# Altium schematic symbol library Chips.SchLib: 8 symbols
Pins are listed as number, name and electrical type; pins without a type are passive.

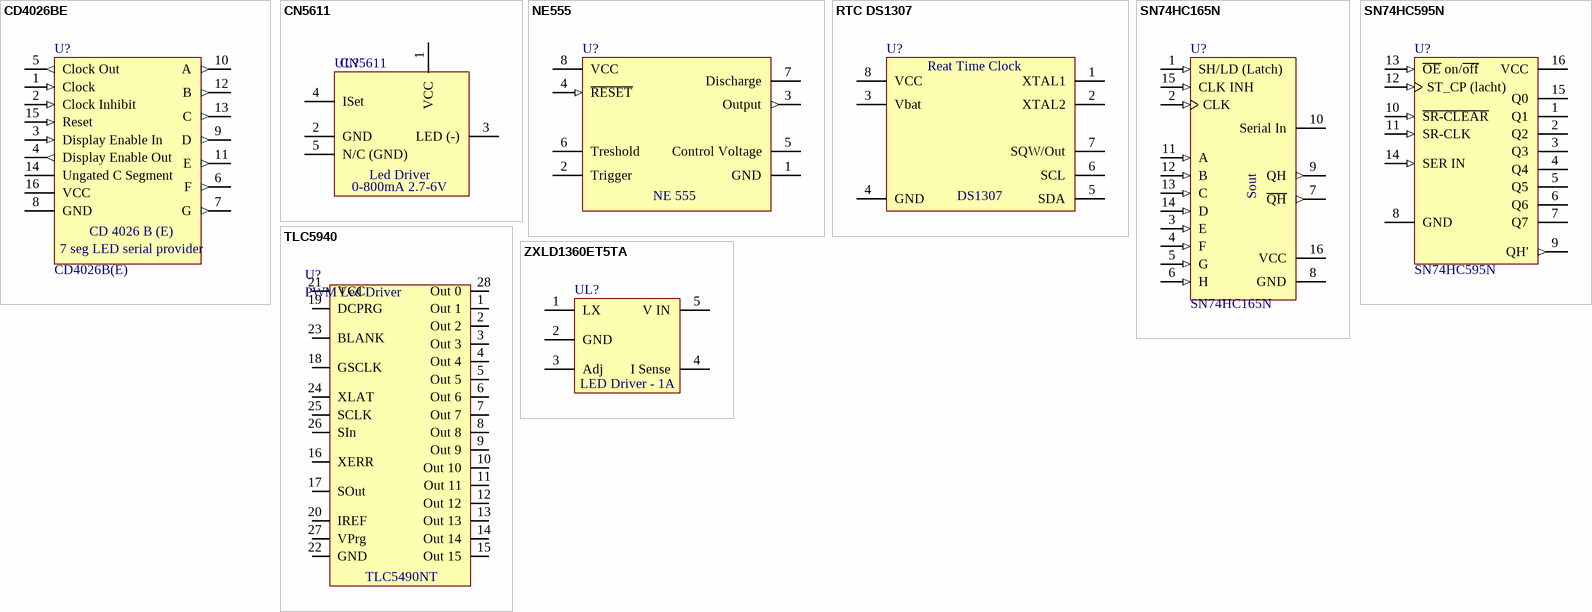
[diagram p0: symbols CD4026BE to ZXLD1360ET5TA]

## CD4026BE
designator U?, comment CD4026B(E)
jk Trigger; PackageDescription: DIP; 16 Leads; Row Spacing 7.62 mm; Pitch 2.54 mm; ComponentLink1URL: http://www.ti.com/; ComponentLink2Description: Datasheet; ComponentLink2URL: http://www.ti.com/lit/ds/symlink/cd4033b.pdf
footprint DIP-16 (DIP; 16 Leads; Row Spacing 7.62 mm; Pitch 2.54 mm)
footprint SO16
footprint SO16 - S
pins: 1 Clock (in), 2 Clock Inhibit (in), 3 Display Enable In (in), 4 Display Enable Out (out), 5 Clock Out (out), 6 F (out), 7 G (out), 8 GND (power), 9 D (out), 10 A (out), 11 E (out), 12 B (out), 13 C (out), 14 Ungated C Segment, 15 Reset (in), 16 VCC (power)
text: CD 4026 B (E); 7 seg LED serial provider

## CN5611
designator UL?, comment Name: CN5611  (hidden comment: Led Driver)
Led Driver 0-800mA 2.7-6V; PackageDescription: SOT-89; ComponentLink2Description: Datasheet
footprint SOT-89-5
pins: 1 VCC (power), 2 GND (power), 3 LED (-) (power), 4 ISet (power), 5 N/C (GND) (power)
text: 0-800mA 2.7-6V

## NE555
designator U?  (value not drawn)
8-Bit Shift Register with 3-State Output Registers; PackageDescription: DIP; 8 Leads; Row Spacing 7.62 mm; Pitch 2.54 mm / SO-8; Code_JEDEC: MS-001-BB; ComponentLink1Description: TI / STI; ComponentLink1URL: http://www.ti.com/; ComponentLink2Description: Datasheet; ComponentLink2URL: http://tec.org.ru/_bd/1/150_NE555-stm.pdf
footprint DIP-8 (DIP; 8 Leads; Row Spacing 7.62 mm; Pitch 2.54 mm)
footprint DIP-8 (Oval) (DIP; 8 Leads; Row Spacing 7.62 mm; Pitch 2.54 mm)
footprint SO8
pins: 1 GND (power), 2 Trigger (hiz), 3 Output (out), 4 ~{RESET} (in), 5 Control Voltage (hiz), 6 Treshold (hiz), 7 Discharge (hiz), 8 VCC (power)
text: NE 555

## RTC DS1307
designator U?, comment DS1307  (value not drawn)
(RTC) Real Time Clock; PackageDescription: DIP; 8 Leads; Row Spacing 7.62 mm; Pitch 2.54 mm / SO-8; Datasheet: http://cxem.net/arduino/files/arduino120_DS1307_datashit.pdf
footprint DIP-8 (DIP; 8 Leads; Row Spacing 7.62 mm; Pitch 2.54 mm)
footprint DIP-8 (Oval) (DIP; 8 Leads; Row Spacing 7.62 mm; Pitch 2.54 mm)
footprint SO8
pins: 1 XTAL1 (power), 2 XTAL2 (hiz), 3 Vbat, 4 GND, 5 SDA (hiz), 6 SCL (hiz), 7 SQW/Out (hiz), 8 VCC (power)
text: Reat Time Clock

## SN74HC165N
designator U?
8-Bit Parallel-Load Shift Register; Published: 8-Jun-2000; LatestRevisionDate: 04-Mar-2005; LatestRevisionNote: Stylized 3D Model Added.; DatasheetVersion: May-1997; PackageVersion: Oct-1995; PackageReference: N016; Publisher: Altium Limited; PackageDescription: DIP; 16 Leads; Row Spacing 7.62 mm; Pitch 2.54 mm; Code_JEDEC: MS-001-BB; ComponentLink1Description: Manufacturer Link; ComponentLink1URL: http://www.ti.com/; ComponentLink2Description: Datasheet; ComponentLink2URL: http://www-s.ti.com/sc/ds/sn74hc165.pdf
signal-integrity model SN74HC165N
footprint DIP-16 (DIP; 16 Leads; Row Spacing 7.62 mm; Pitch 2.54 mm)
footprint SO16
footprint SO16 - S
pins: 1 SH/LD (Latch) (in), 2 CLK (in), 3 E (in), 4 F (in), 5 G (in), 6 H (in), 7 ~{QH} (out), 8 GND (power), 9 QH (out), 10 Serial In, 11 A (in), 12 B (in), 13 C (in), 14 D (in), 15 CLK INH (in), 16 VCC (power)
text: Sout

## SN74HC595N
designator U?
8-Bit Shift Register with 3-State Output Registers; Published: 8-Jun-2000; LatestRevisionDate: 04-Mar-2005; LatestRevisionNote: Stylized 3D Model Added.; DatasheetVersion: May-1997; PackageVersion: Oct-1995; PackageReference: N016; Publisher: Altium Limited; PackageDescription: DIP; 16 Leads; Row Spacing 7.62 mm; Pitch 2.54 mm; Code_JEDEC: MS-001-BB; ComponentLink1Description: Manufacturer Link; ComponentLink1URL: http://www.ti.com/; ComponentLink2Description: Datasheet; ComponentLink2URL: http://www-s.ti.com/sc/ds/sn74hc595.pdf
signal-integrity model SN74HC595N
footprint DIP-16 (DIP; 16 Leads; Row Spacing 7.62 mm; Pitch 2.54 mm)
footprint SO16
footprint SO16 - S
pins: 1 Q1 (hiz), 2 Q2 (hiz), 3 Q3 (hiz), 4 Q4 (hiz), 5 Q5 (hiz), 6 Q6 (hiz), 7 Q7 (hiz), 8 GND (power), 9 QH' (out), 10 ~{SR-CLEAR} (in), 11 SR-CLK (in), 12 ST_CP (lacht) (in), 13 ~{OE} on/~{off} (in), 14 SER IN (in), 15 Q0 (hiz), 16 VCC (power)

## TLC5940
designator U?, comment PWM Led Driver
16-Channel LED Driver With DOT Correction and Grayscale PWM Control; DataSheet: http://www.ti.com/lit/ds/symlink/tlc5940.pdf
footprint DIP-28 (DIP; 28 Leads; Row Spacing 7.62 mm; Pitch 2.54 mm)
footprint DIP-28 (OVAL) (DIP; 28 Leads; Row Spacing 7.62 mm; Pitch 2.54 mm)
footprint SSOP-28
pins: 1 Out 1, 2 Out 2, 3 Out 3, 4 Out 4, 5 Out 5, 6 Out 6, 7 Out 7, 8 Out 8, 9 Out 9, 10 Out 10, 11 Out 11, 12 Out 12, 13 Out 13, 14 Out 14, 15 Out 15, 16 XERR, 17 SOut, 18 GSCLK, 19 DCPRG, 20 IREF, 21 VCC, 22 GND, 23 BLANK, 24 XLAT, 25 SCLK, 26 SIn, 27 VPrg, 28 Out 0
text: TLC5490NT

## ZXLD1360ET5TA
designator UL?  (value not drawn)
Led Driver - 1A, 7-30V In; PackageDescription: SOT-23-5; ComponentLink1URL: www.zetex.com; DataSheet URL: https://lib.chipdip.ru/296/DOC000296166.pdf; Name: ZXLD1360ET5TA
footprint SOT-23-5
pins: 1 LX (power), 2 GND (hiz), 3 Adj (power), 4 I Sense (power), 5 V IN (hiz)
text: LED Driver - 1A